# EAGLE library part NC7WZ14P6X (library C3-NXP)
UHS Dual Inverter w/Schmitt
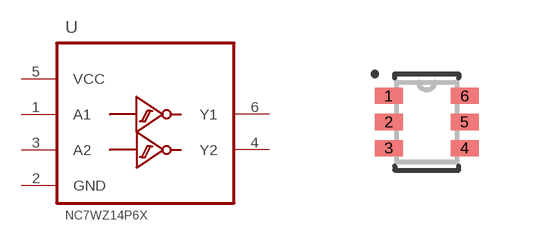
[diagram p1: symbol with the pads of SC70-6; footprint SC70-6]

Designator prefix U

## NC7WZ14P6X (MPN: NC7WZ14P6X; OC_FARNELL: 1417668; OC_NEWARK: 58K2001; PACKAGE: SC-70-6; SUPPLIER: FAIRCHILD SEMICONDUCTOR)  [SC70-6]
1  A1  in
2  GND  pwr
3  A2  in
4  Y2  out
5  VCC  pwr
6  Y1  out

## Footprint SC70-6 (pad centres in mm)
smd 0.7 x 0.4: 1 -0.95,0.65; 2 -0.95,0; 3 -0.95,-0.65; 4 0.95,-0.65; 5 0.95,0; 6 0.95,0.65